# Altium footprint library SOP24.PcbLib: 3 footprints
Each footprint in its own frame and in the unit in brackets; x right, y up, seen from the top. Pads: shape width x height; smd on the part's side, far side on the other; paste and mask are expansions set on the pad; w line width, h text height; cw(c..) or ccw(c..) is an arc to the next point about the centre after c.
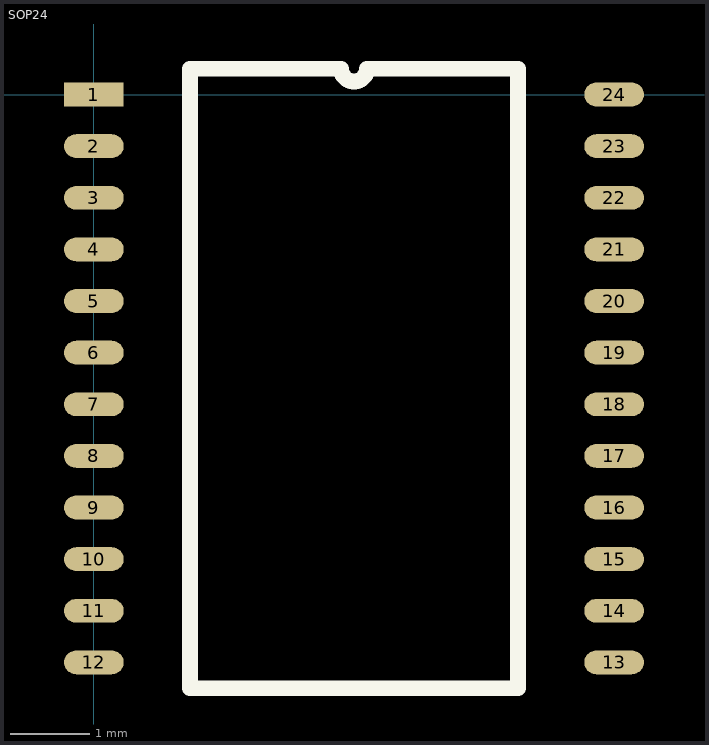
[diagram p0: the footprints below, top view; thin cyan lines are the x and y axes]

## PCBComponent_1 [mm]

## PCBComponent_1 - duplicate [mm]

## SOP24 [mm]
pads (24):
  rect 0.75x0.3 smd: 1(0,0)
  oval 0.75x0.3 smd: 2(0,-0.65) 3(0,-1.3) 4(0,-1.95) 5(0,-2.6) 6(0,-3.25) 7(0,-3.9) 8(0,-4.55) 9(0,-5.2) 10(0,-5.85) 11(0,-6.5) 12(0,-7.15) 13(6.55,-7.15) 14(6.55,-6.5) 15(6.55,-5.85) 16(6.55,-5.2) 17(6.55,-4.55) 18(6.55,-3.9) 19(6.55,-3.25) 20(6.55,-2.6) 21(6.55,-1.95) 22(6.55,-1.3) 23(6.55,-0.65) 24(6.55,0)
Top Overlay:
  lines w0.2: 1.21,-7.475 1.21,0.325 3.113,0.325 ccw(c3.275,0.325) 3.437,0.325 5.34,0.325 5.34,-7.475 1.21,-7.475